# EAGLE library part ID-2 (library Oles komponentbibliotek)
125 kHz RFID reader module ID-2, ID-12, or ID20 125 kHz RFID readers from ID-Innovations .
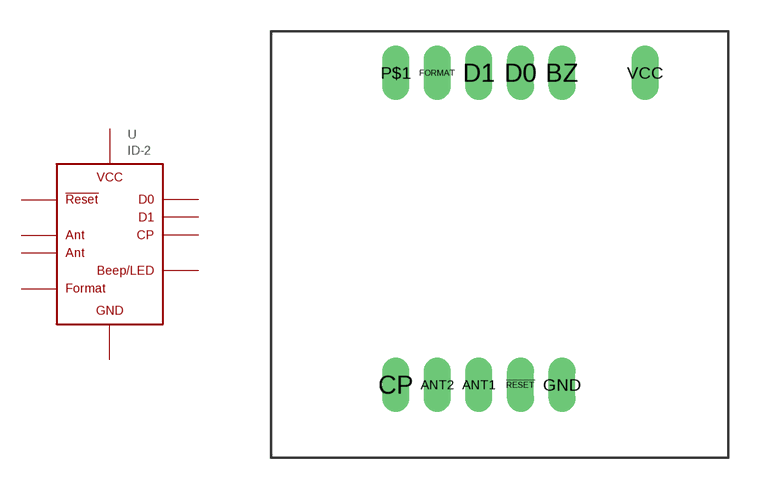
[diagram p18: symbol with the pads of ID-2; footprint ID-2]

Designator prefix -

## ID-2  [ID-2]
!RESET  !RESET  in
ANT1  ANT1  pas
ANT2  ANT2  pas
BZ  BZ  out
CP  CP  out
D0  D0  in
D1  D1  out
FORMAT  FORMAT  in
GND  GND  pwr
VCC  VCC  pwr

## Footprint ID-2 (pad centres in mm)
drill 0.8 long: !RESET 1,-7; ANT1 -1,-7; ANT2 -3,-7; BZ 3,8; CP -5,-7; D0 1,8; D1 -1,8; FORMAT -3,8; GND 3,-7; P$1 -5,8; VCC 7,8